# EAGLE library part 55917-1230 (library relay_computer_custom)
12 Pin - 2mm Dual Row Single Wafer, Vertical T/H HDR Source: http://www.molex.com/pdm_docs/sd/559171230_sd.pdf
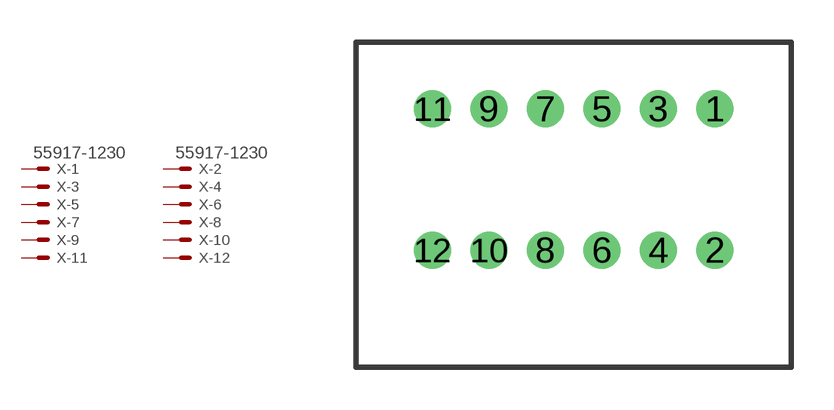
[diagram p1: symbol with the pads of 55917-1230; footprint 55917-1230]

Designator prefix X; gates -1=MV -2=MV -3=M -4=M -5=M -6=M -7=M -8=M -9=M -10=M -11=M -12=M

## 55917-1230 (MPN: 55917-1230; OC_FARNELL: unknown; OC_NEWARK: unknown)  [55917-1230]
1  -1:S  pas
2  -2:S  pas
3  -3:S  pas
4  -4:S  pas
5  -5:S  pas
6  -6:S  pas
7  -7:S  pas
8  -8:S  pas
9  -9:S  pas
10  -10:S  pas
11  -11:S  pas
12  -12:S  pas

## Footprint 55917-1230 (pad centres in mm)
12 Pin - 2mm Dual Row Single Wafer, Vertical T/H HDR Source: http://www.molex.com/pdm_docs/sd/877580616_sd.pdf
drill 0.8: 1 5,2.5; 2 5,-2.5; 3 3,2.5; 4 3,-2.5; 5 1,2.5; 6 1,-2.5; 7 -1,2.5; 8 -1,-2.5; 9 -3,2.5; 10 -3,-2.5; 11 -5,2.5; 12 -5,-2.5